# Altium schematic symbol library DIODES_INC_AP2114H.SchLib: 1 symbol
Pins are listed as number, name and electrical type; pins without a type are passive.

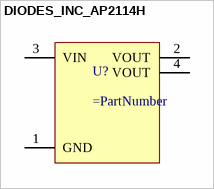
[diagram p0: symbol DIODES_INC_AP2114H]

## DIODES_INC_AP2114H
designator U?
pins: 1 GND, 2 VOUT, 3 VIN, 4 VOUT